# Altium footprint library Leadless.PcbLib: 78 footprints (part 2 of 5)
Each footprint in its own frame and in the unit in brackets; x right, y up, seen from the top. Pads: shape width x height; smd on the part's side, far side on the other; paste and mask are expansions set on the pad; w line width, h text height; cw(c..) or ccw(c..) is an arc to the next point about the centre after c.
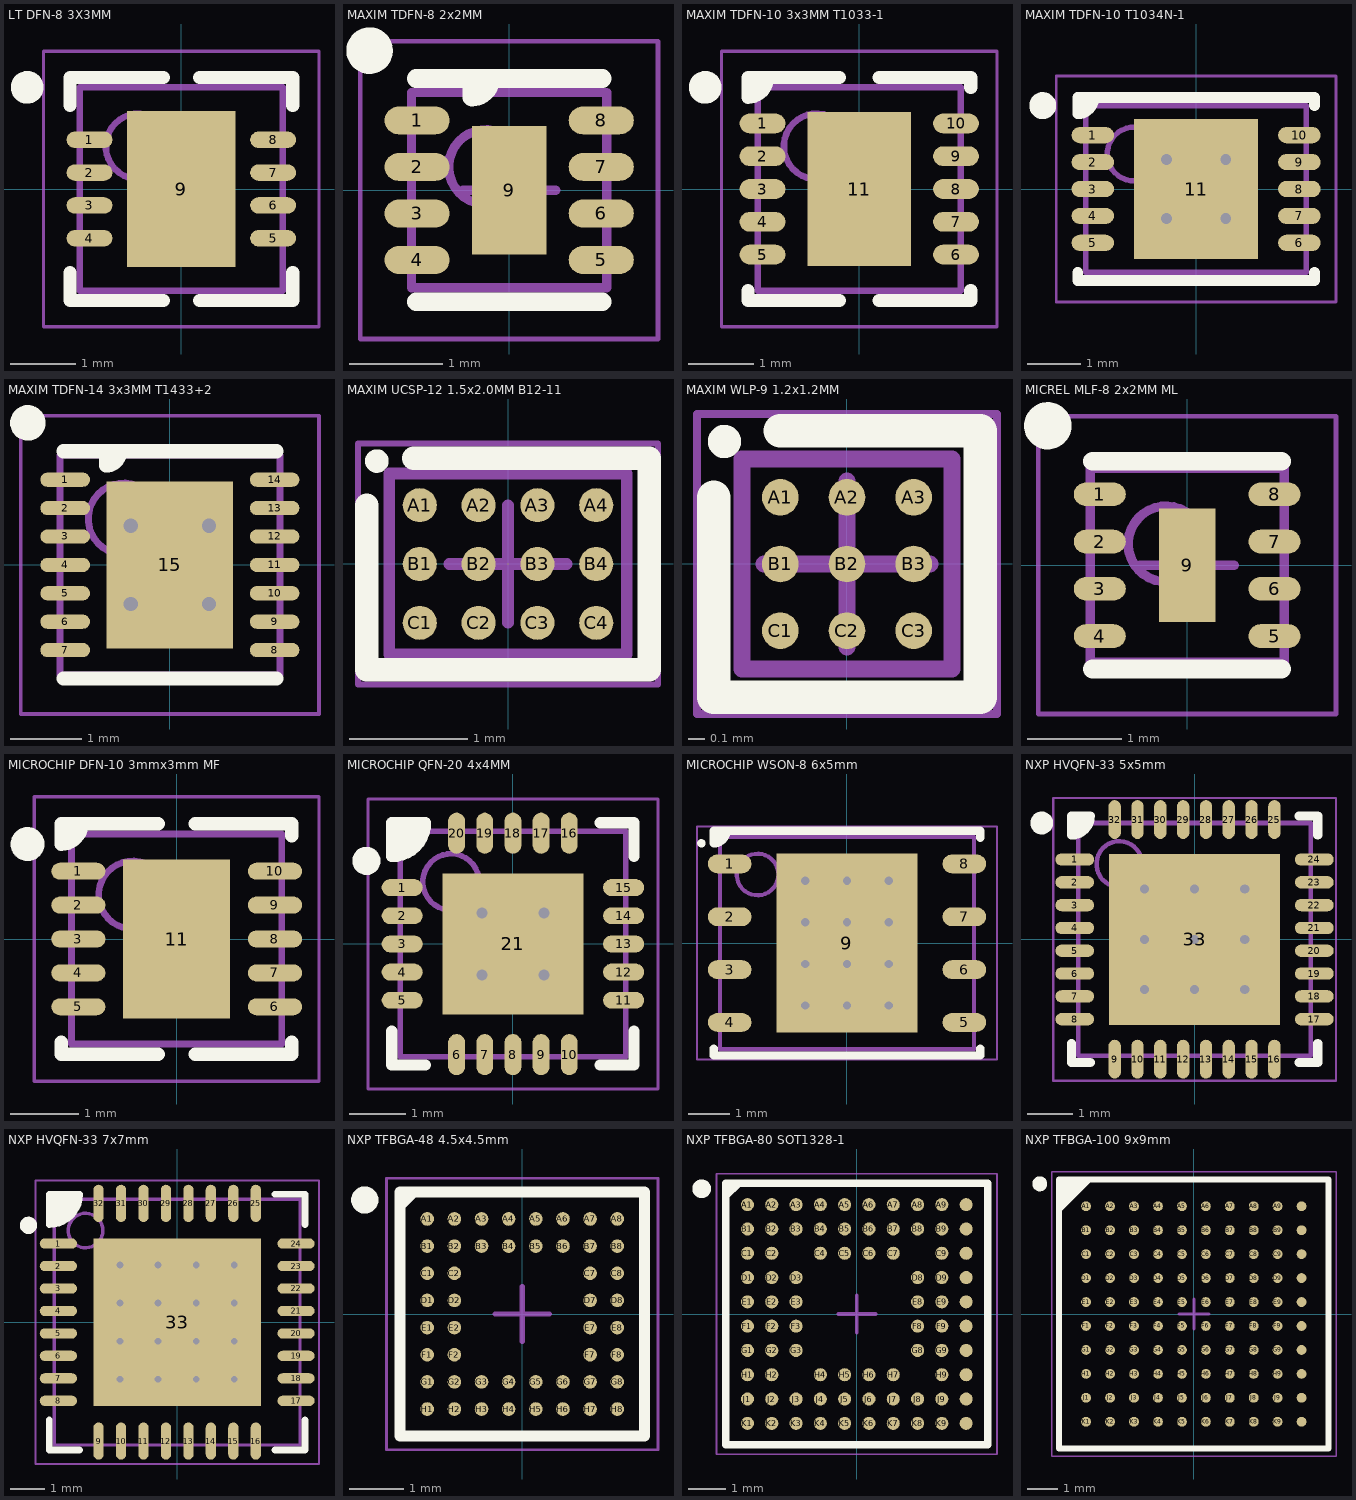
[diagram p1: the footprints below, top view; thin cyan lines are the x and y axes]

## LT DFN-8 3X3MM [mm] "DFN, 8-Leads, Body 3.00x3.00mm, Pitch 0.50mm, Thermal Pad 1.65x2.38mm, IPC Medium Density"
height 0.75
pads (9):
  oval 0.7x0.25 smd: 1(-1.4,0.75) 2(-1.4,0.25) 3(-1.4,-0.25) 4(-1.4,-0.75) 5(1.4,-0.75) 6(1.4,-0.25) 7(1.4,0.25) 8(1.4,0.75)
  rect 1.65x2.38 smd: 9(0,0)
Top Overlay:
  circle w0.25: c-2.35,1.55 r0.125
  lines w0.2: -1.7,-1.275 -1.7,-1.7 -0.275,-1.7 ; -1.7,1.275 -1.7,1.7 -0.275,1.7 ; 0.275,-1.7 1.7,-1.7 1.7,-1.275 ; 0.275,1.7 1.7,1.7 1.7,1.275
Mechanical 13:
  circle w0.1: c-0.65,0.65 r0.5
  lines w0.1: -1.55,-1.55 1.55,-1.55 1.55,1.55 -1.55,1.55 -1.55,-1.55
Mechanical 15:
  lines w0.05: -2.1,-2.1 2.1,-2.1 2.1,2.1 -2.1,2.1 -2.1,-2.1
  lines w0.1: -0.5,0 0.5,0 ; 0,-0.5 0,0.5
3D body: height 0.75, standoff 0.01, extent -1.55,-1.55 1.55,1.55

## MAXIM TDFN-8 2x2MM [mm] "DFN, 8-Leads, Body 2.00x2.00mm, Pitch 0.50mm, Thermal Pad 0.80x1.38mm, IPC Medium Density"
height 0.8
pads (9):
  oval 0.7x0.3 smd: 1(-0.99,0.75) 2(-0.99,0.25) 3(-0.99,-0.25) 4(-0.99,-0.75) 5(0.99,-0.75) 6(0.99,-0.25) 7(0.99,0.25) 8(0.99,0.75)
  rect 0.8x1.38 smd: 9(0,0)
Top Overlay:
  circle w0.25: c-1.5,1.5 r0.125
  lines w0.2: -1,-1.2 1,-1.2 ; -1,1.2 1,1.2 ; -0.4,1.2 -0.4,1 ccw(c-0.4,1.2) -0.2,1.2
Mechanical 13:
  circle w0.1: c-0.25,0.25 r0.4
  lines w0.1: -1.05,-1.05 1.05,-1.05 1.05,1.05 -1.05,1.05 -1.05,-1.05
Mechanical 15:
  lines w0.05: -1.6,-1.6 1.6,-1.6 1.6,1.6 -1.6,1.6 -1.6,-1.6
  lines w0.1: -0.5,0 0.5,0 ; 0,-0.5 0,0.5
3D body: height 0.8, standoff 0.01, extent -1.05,-1.05 1.05,1.05

## MAXIM TDFN-10 3x3MM T1033-1 [mm] "DFN, 10-Leads, Body 3.00x3.00mm, Pitch 0.50mm, Thermal Pad 1.58x2.35mm, IPC Medium Density"
height 0.8
pads (11):
  oval 0.7x0.3 smd: 1(-1.475,1) 2(-1.475,0.5) 3(-1.475,0) 4(-1.475,-0.5) 5(-1.475,-1) 6(1.475,-1) 7(1.475,-0.5) 8(1.475,0) 9(1.475,0.5) 10(1.475,1)
  rect 1.58x2.35 smd: 11(0,0)
Top Overlay:
  circle w0.25: c-2.35,1.55 r0.125
  region: -1.4,1.7 -1.7,1.7 -1.7,1.4
  lines w0.2: -1.7,-1.55 -1.7,-1.7 -0.3,-1.7 ; -1.4,1.7 cw(c-1.7,1.7) -1.7,1.4 ; -0.3,1.7 -1.7,1.7 -1.7,1.4 ; 0.3,-1.7 1.7,-1.7 1.7,-1.55 ; 0.3,1.7 1.7,1.7 1.7,1.55 ; -1.7,1.4 -1.7,1.4
Mechanical 13:
  circle w0.1: c-0.65,0.65 r0.5
  lines w0.1: -1.55,-1.55 -1.55,1.55 1.55,1.55 1.55,-1.55 -1.55,-1.55
Mechanical 15:
  lines w0.05: -2.1,-2.1 -2.1,2.1 2.1,2.1 2.1,-2.1 -2.1,-2.1
  lines w0.1: -0.5,0 0.5,0 ; 0,-0.5 0,0.5
3D body: height 0.8, standoff 0.01, extent -1.55,-1.55 1.55,1.55

## MAXIM TDFN-10 T1034N-1 [mm] "DFN, 10-Leads, Body 4.00x3.00mm, Pitch 0.50mm, Thermal Pad 2.30x2.60mm, IPC Medium Density"
height 0.8
pads (11):
  oval 0.79x0.3 smd: 1(-1.92,1) 2(-1.92,0.5) 3(-1.92,0) 4(-1.92,-0.5) 5(-1.92,-1) 6(1.92,-1) 7(1.92,-0.5) 8(1.92,0) 9(1.92,0.5) 10(1.92,1)
  rect 2.3x2.6 smd: 11(0,0)
via 0.55,-0.55 diameter 0.5 hole 0.2
via -0.55,-0.55 diameter 0.5 hole 0.2
via 0.55,0.55 diameter 0.5 hole 0.2
via -0.55,0.55 diameter 0.5 hole 0.2
Top Overlay:
  circle w0.25: c-2.85,1.55 r0.125
  region: -1.9,1.7 -2.2,1.7 -2.2,1.4 -2.1,1.4 -2,1.5
  lines w0.2: -2.2,-1.55 -2.2,-1.7 2.2,-1.7 2.2,-1.55 ; -1.9,1.7 cw(c-2.2,1.7) -2.2,1.4 ; 2.2,1.55 2.2,1.7 -2.2,1.7 -2.2,1.4 ; -2.2,1.4 -2.2,1.4
Mechanical 13:
  circle w0.1: c-1.15,0.65 r0.5
  lines w0.1: -2.05,-1.55 2.05,-1.55 2.05,1.55 -2.05,1.55 -2.05,-1.55
Mechanical 15:
  lines w0.05: -2.6,-2.1 2.6,-2.1 2.6,2.1 -2.6,2.1 -2.6,-2.1
  lines w0.1: -0.5,0 0.5,0 ; 0,-0.5 0,0.5
3D body: height 0.8, standoff 0.01, extent -2.05,-1.55 2.05,1.55

## MAXIM TDFN-14 3x3MM T1433+2 [mm] "DFN, 14-Leads, Body 3.00x3.00mm, Pitch 0.40mm, Thermal Pad 1.78x2.35mm, IPC Medium Density"
height 0.8
pads (15):
  oval 0.7x0.2 smd: 1(-1.475,1.2) 2(-1.475,0.8) 3(-1.475,0.4) 4(-1.475,0) 5(-1.475,-0.4) 6(-1.475,-0.8) 7(-1.475,-1.2) 8(1.475,-1.2) 9(1.475,-0.8) 10(1.475,-0.4) 11(1.475,0) 12(1.475,0.4) 13(1.475,0.8) 14(1.475,1.2)
  rect 1.78x2.35 smd: 15(0,0)
via -0.55,0.55 diameter 0.5 hole 0.2
via 0.55,0.55 diameter 0.5 hole 0.2
via -0.55,-0.55 diameter 0.5 hole 0.2
via 0.55,-0.55 diameter 0.5 hole 0.2
Top Overlay:
  circle w0.25: c-2,2 r0.125
  lines w0.2: -1.5,-1.6 1.5,-1.6 ; -1.5,1.6 1.5,1.6 ; -0.9,1.6 -0.9,1.4 ccw(c-0.9,1.6) -0.7,1.6
Mechanical 13:
  circle w0.1: c-0.65,0.65 r0.5
  lines w0.1: -1.55,-1.55 -1.55,1.55 1.55,1.55 1.55,-1.55 -1.55,-1.55
Mechanical 15:
  lines w0.05: -2.1,-2.1 -2.1,2.1 2.1,2.1 2.1,-2.1 -2.1,-2.1
  lines w0.1: -0.5,0 0.5,0 ; 0,-0.5 0,0.5
3D body: height 0.8, standoff 0.01, extent -1.55,-1.55 1.55,1.55

## MAXIM UCSP-12 1.5x2.0MM B12-11 [mm] "BGA, 12-Leads, Body 2.02x1.54mmx0.67mm, Pitch 0.50mm"
height 0.67
pads (12):
  round 0.29 smd: A1(-0.75,0.5) A2(-0.25,0.5) A3(0.25,0.5) A4(0.75,0.5) B1(-0.75,0) B2(-0.25,0) B3(0.25,0) B4(0.75,0) C1(-0.75,-0.5) C2(-0.25,-0.5) C3(0.25,-0.5) C4(0.75,-0.5)
Top Overlay:
  circle w0.1: c-1.115,0.875 r0.05
  lines w0.2: -1.2,0.5 -1.2,-0.9 1.2,-0.9 1.2,0.9 -0.8,0.9
Mechanical 13:
  lines w0.1: -1.01,-0.77 1.01,-0.77 1.01,0.77 -1.01,0.77 -1.01,-0.77
Mechanical 15:
  lines w0.05: -1.275,-1.025 1.275,-1.025 1.275,1.025 -1.275,1.025 -1.275,-1.025
  lines w0.1: -0.5,0 0.5,0 ; 0,-0.5 0,0.5
3D body: height 0.67, standoff 0.27, extent -1.01,-0.77 1.01,0.77

## MAXIM WLP-9 1.2x1.2MM [mm] "WLP, 9-Leads, Body 1.26x1.26mmx0.64mm, Pitch 0.40mm"
height 0.64
pads (9):
  round 0.22 smd: A1(-0.4,0.4) A2(0,0.4) A3(0.4,0.4) B1(-0.4,0) B2(0,0) B3(0.4,0) C1(-0.4,-0.4) C2(0,-0.4) C3(0.4,-0.4)
Top Overlay:
  circle w0.1: c-0.735,0.735 r0.05
  lines w0.2: -0.8,0.4 -0.8,-0.8 0.8,-0.8 0.8,0.8 -0.4,0.8
Mechanical 13:
  lines w0.1: -0.63,-0.63 0.63,-0.63 0.63,0.63 -0.63,0.63 -0.63,-0.63
Mechanical 15:
  lines w0.05: -0.9,-0.9 0.9,-0.9 0.9,0.9 -0.9,0.9 -0.9,-0.9
  lines w0.1: -0.5,0 0.5,0 ; 0,-0.5 0,0.5
3D body: height 0.64, standoff 0.16, extent -0.63,-0.63 0.63,0.63

## MICREL MLF-8 2x2MM ML [mm] "MLF, 8-Leads, Body 2.00x2.00mm, Pitch 0.50mm, Thermal Pad 0.60x1.20mm, IPC Medium Density"
height 0.85
pads (9):
  oval 0.55x0.25 smd: 1(-0.925,0.75) 2(-0.925,0.25) 3(-0.925,-0.25) 4(-0.925,-0.75) 5(0.925,-0.75) 6(0.925,-0.25) 7(0.925,0.25) 8(0.925,0.75)
  rect 0.6x1.2 smd: 9(0,0)
Top Overlay:
  circle w0.25: c-1.475,1.475 r0.125
  lines w0.2: -1,-1.1 1,-1.1 ; -1,1.1 1,1.1
Mechanical 13:
  circle w0.1: c-0.225,0.225 r0.4
  lines w0.1: -1.025,-1.025 1.025,-1.025 1.025,1.025 -1.025,1.025 -1.025,-1.025
Mechanical 15:
  lines w0.05: -1.575,-1.575 1.575,-1.575 1.575,1.575 -1.575,1.575 -1.575,-1.575
  lines w0.1: -0.5,0 0.5,0 ; 0,-0.5 0,0.5
3D body: height 0.85, standoff 0.01, extent -1.025,-1.025 1.025,1.025

## MICROCHIP DFN-10 3mmx3mm MF [mm] "DFN, 10-Leads, Body 3.00x3.00mm, Pitch 0.50mm, Thermal Pad 1.58x2.34mm, IPC Medium Density"
height 1
pads (11):
  oval 0.8x0.25 smd: 1(-1.45,1) 2(-1.45,0.5) 3(-1.45,0) 4(-1.45,-0.5) 5(-1.45,-1) 6(1.45,-1) 7(1.45,-0.5) 8(1.45,0) 9(1.45,0.5) 10(1.45,1)
  rect 1.58x2.34 smd: 11(0,0)
Top Overlay:
  circle w0.25: c-2.2,1.4 r0.125
  region: -1.7,1.7 -1.4,1.7 -1.7,1.4
  lines w0.2: -1.7,-1.525 -1.7,-1.7 -0.275,-1.7 ; -1.4,1.7 cw(c-1.7,1.7) -1.7,1.4 -1.7,1.7 -0.275,1.7 ; 0.275,-1.7 1.7,-1.7 1.7,-1.525 ; 0.275,1.7 1.7,1.7 1.7,1.525
Mechanical 13:
  circle w0.1: c-0.65,0.65 r0.5
  lines w0.1: -1.55,-1.55 -1.55,1.55 1.55,1.55 1.55,-1.55 -1.55,-1.55
Mechanical 15:
  lines w0.05: -2.1,-2.1 -2.1,2.1 2.1,2.1 2.1,-2.1 -2.1,-2.1
  lines w0.1: -0.5,0 0.5,0 ; 0,-0.5 0,0.5
3D body: height 1, standoff 0.01, extent -1.55,-1.55 1.55,1.55

## MICROCHIP QFN-20 4x4MM [mm] "QFN, 20-Leads, Body 4.00x4.00mm, Pitch 0.50mm, Thermal Pad 2.50x2.50mm, IPC Medium Density"
height 1
pads (21):
  oval 0.73x0.3 smd: 1(-1.965,1) 2(-1.965,0.5) 3(-1.965,0) 4(-1.965,-0.5) 5(-1.965,-1) 11(1.965,-1) 12(1.965,-0.5) 13(1.965,0) 14(1.965,0.5) 15(1.965,1)
  oval 0.3x0.73 smd: 6(-1,-1.965) 7(-0.5,-1.965) 8(0,-1.965) 9(0.5,-1.965) 10(1,-1.965) 16(1,1.965) 17(0.5,1.965) 18(0,1.965) 19(-0.5,1.965) 20(-1,1.965)
  rect 2.5x2.5 smd: 21(0,0)
via -0.55,0.55 diameter 0.5 hole 0.2
via 0.55,0.55 diameter 0.5 hole 0.2
via -0.55,-0.55 diameter 0.5 hole 0.2
via 0.55,-0.55 diameter 0.5 hole 0.2
Top Overlay:
  circle w0.25: c-2.6,1.475 r0.125
  region: -1.55,2.15 -2.15,2.15 -2.15,1.55 -1.925,1.55 -1.55,1.925
  lines w0.2: -2.15,-1.55 -2.15,-2.15 -1.55,-2.15 ; 1.55,-2.15 2.15,-2.15 2.15,-1.55 ; 1.55,2.15 2.15,2.15 2.15,1.55 ; -2.15,1.55 ccw(c-2.15,2.15) -1.55,2.15 -2.15,2.15 -2.15,1.55
Mechanical 13:
  circle w0.1: c-1.1,1.1 r0.5
  lines w0.1: -2,-2 -2,2 2,2 2,-2 -2,-2
Mechanical 15:
  lines w0.05: -2.575,-2.575 -2.575,2.575 2.575,2.575 2.575,-2.575 -2.575,-2.575
  lines w0.1: -0.5,0 0.5,0 ; 0,-0.5 0,0.5
3D body: height 1, standoff 0, extent -2,-2 2,2

## MICROCHIP WSON-8 6x5mm [mm] "SON, 8-Leads, Body 5.00x6.00mm, Pitch 1.27mm, Thermal Pad 4.30x3.40mm, IPC Medium Density"
height 0.8
pads (9):
  oval 1.05x0.45 smd: 1(-2.82,1.905) 2(-2.82,0.635) 3(-2.82,-0.635) 4(-2.82,-1.905) 5(2.82,-1.905) 6(2.82,-0.635) 7(2.82,0.635) 8(2.82,1.905)
  rect 3.4x4.3 smd paste-1.7 mask+0: 9(0,0)
via -1,1.5 diameter 0.5 hole 0.2
via 0,1.5 diameter 0.5 hole 0.2
via 1,1.5 diameter 0.5 hole 0.2
via -1,0.5 diameter 0.5 hole 0.2
via 0,0.5 diameter 0.5 hole 0.2
via 1,0.5 diameter 0.5 hole 0.2
via -1,-0.5 diameter 0.5 hole 0.2
via 0,-0.5 diameter 0.5 hole 0.2
via 1,-0.5 diameter 0.5 hole 0.2
via -1,-1.5 diameter 0.5 hole 0.2
via 0,-1.5 diameter 0.5 hole 0.2
via 1,-1.5 diameter 0.5 hole 0.2
Top Overlay:
  circle w0.1: c-3.5,2.4 r0.05
  region: -3.2,2.4 -3.14,2.4 -3.03,2.446 -2.946,2.53 -2.9,2.64 -2.9,2.7 -3.2,2.7
  lines w0.2: -3.2,-2.53 -3.2,-2.7 3.2,-2.7 3.2,-2.53 ; -2.9,2.7 cw(c-3.2,2.7) -3.2,2.4 ; 3.2,2.53 3.2,2.7 -3.2,2.7 -3.2,2.4 ; -3.2,2.4 -3.2,2.4
Top Paste:
  rectangle: -1.595,0.815 -0.665,2.045
  rectangle: -1.595,-0.615 -0.665,0.615
  rectangle: -1.595,-2.045 -0.665,-0.815
  rectangle: -0.465,0.815 0.465,2.045
  rectangle: -0.465,-0.615 0.465,0.615
  rectangle: -0.465,-2.045 0.465,-0.815
  rectangle: 0.665,0.815 1.595,2.045
  rectangle: 0.665,-0.615 1.595,0.615
  rectangle: 0.665,-2.045 1.595,-0.815
Mechanical 13:
  circle w0.1: c-2.15,1.65 r0.5
  lines w0.1: -3.05,-2.55 -3.05,2.55 3.05,2.55 3.05,-2.55 -3.05,-2.55
Mechanical 15:
  lines w0.05: -3.605,-2.8 -3.605,2.8 3.605,2.8 3.605,-2.8 -3.605,-2.8
  lines w0.1: -0.5,0 0.5,0 ; 0,-0.5 0,0.5
3D body: height 0.8, standoff 0, extent -3.05,-2.55 3.05,2.55

## NXP HVQFN-33 5x5mm [mm] "QFN, 32-Leads, Body 5.00x5.00mm, Pitch 0.50mm, Thermal Pad 3.75x3.75mm, IPC Medium Density"
height 0.85
pads (33):
  oval 0.85x0.27 smd: 1(-2.625,1.75) 2(-2.625,1.25) 3(-2.625,0.75) 4(-2.625,0.25) 5(-2.625,-0.25) 6(-2.625,-0.75) 7(-2.625,-1.25) 8(-2.625,-1.75) 17(2.625,-1.75) 18(2.625,-1.25) 19(2.625,-0.75) 20(2.625,-0.25) 21(2.625,0.25) 22(2.625,0.75) 23(2.625,1.25) 24(2.625,1.75)
  oval 0.27x0.85 smd: 9(-1.75,-2.625) 10(-1.25,-2.625) 11(-0.75,-2.625) 12(-0.25,-2.625) 13(0.25,-2.625) 14(0.75,-2.625) 15(1.25,-2.625) 16(1.75,-2.625) 25(1.75,2.625) 26(1.25,2.625) 27(0.75,2.625) 28(0.25,2.625) 29(-0.25,2.625) 30(-0.75,2.625) 31(-1.25,2.625) 32(-1.75,2.625)
  rect 3.75x3.75 smd: 33(0,0)
via 1.1,-1.1 diameter 0.5 hole 0.2
via 0,-1.1 diameter 0.5 hole 0.2
via -1.1,-1.1 diameter 0.5 hole 0.2
via 1.1,0 diameter 0.5 hole 0.2
via 0,0 diameter 0.5 hole 0.2
via -1.1,0 diameter 0.5 hole 0.2
via 1.1,1.1 diameter 0.5 hole 0.2
via 0,1.1 diameter 0.5 hole 0.2
via -1.1,1.1 diameter 0.5 hole 0.2
Top Overlay:
  circle w0.25: c-3.35,2.55 r0.125
  region: -2.7,2.7 -2.285,2.7 -2.285,2.515 -2.515,2.285 -2.7,2.285
  lines w0.2: -2.7,-2.285 -2.7,-2.7 -2.285,-2.7 ; 2.285,-2.7 2.7,-2.7 2.7,-2.285 ; 2.285,2.7 2.7,2.7 2.7,2.285 ; -2.7,2.285 ccw(c-2.7,2.7) -2.285,2.7 -2.7,2.7 -2.7,2.285
Mechanical 13:
  circle w0.1: c-1.65,1.65 r0.5
  lines w0.1: -2.55,-2.55 2.55,-2.55 2.55,2.55 -2.55,2.55 -2.55,-2.55
Mechanical 15:
  lines w0.05: -3.1,-3.1 3.1,-3.1 3.1,3.1 -3.1,3.1 -3.1,-3.1
  lines w0.1: -0.5,0 0.5,0 ; 0,-0.5 0,0.5
3D body: height 0.85, standoff 0.01, extent -2.55,-2.55 2.55,2.55

## NXP HVQFN-33 7x7mm [mm] "HVQFN, 32-Leads, Body 7.00x7.00mm, Pitch 0.65mm, Thermal Pad 4.85x4.85mm, IPC Medium Density"
height 1
pads (33):
  oval 1.075x0.3 smd: 1(-3.437,2.275) 2(-3.437,1.625) 3(-3.437,0.975) 4(-3.437,0.325) 5(-3.437,-0.325) 6(-3.437,-0.975) 7(-3.437,-1.625) 8(-3.437,-2.275) 17(3.438,-2.275) 18(3.438,-1.625) 19(3.438,-0.975) 20(3.438,-0.325) 21(3.438,0.325) 22(3.438,0.975) 23(3.438,1.625) 24(3.438,2.275)
  oval 0.3x1.075 smd: 9(-2.275,-3.438) 10(-1.625,-3.438) 11(-0.975,-3.438) 12(-0.325,-3.438) 13(0.325,-3.438) 14(0.975,-3.438) 15(1.625,-3.438) 16(2.275,-3.438) 25(2.275,3.437) 26(1.625,3.437) 27(0.975,3.437) 28(0.325,3.437) 29(-0.325,3.437) 30(-0.975,3.437) 31(-1.625,3.437) 32(-2.275,3.437)
  rect 4.85x4.85 smd: 33(0,0)
via -1.65,1.65 diameter 0.5 hole 0.2
via -0.55,1.65 diameter 0.5 hole 0.2
via 0.55,1.65 diameter 0.5 hole 0.2
via 1.65,1.65 diameter 0.5 hole 0.2
via -1.65,0.55 diameter 0.5 hole 0.2
via -0.55,0.55 diameter 0.5 hole 0.2
via 0.55,0.55 diameter 0.5 hole 0.2
via 1.65,0.55 diameter 0.5 hole 0.2
via -1.65,-0.55 diameter 0.5 hole 0.2
via -0.55,-0.55 diameter 0.5 hole 0.2
via 0.55,-0.55 diameter 0.5 hole 0.2
via 1.65,-0.55 diameter 0.5 hole 0.2
via -1.65,-1.65 diameter 0.5 hole 0.2
via -0.55,-1.65 diameter 0.5 hole 0.2
via 0.55,-1.65 diameter 0.5 hole 0.2
via 1.65,-1.65 diameter 0.5 hole 0.2
Top Overlay:
  circle w0.25: c-4.3,2.8 r0.125
  region: -3.7,3.7 -2.825,3.7 -2.825,3.614 -2.859,3.445 -2.925,3.286 -3.02,3.142 -3.142,3.02 -3.286,2.925 -3.445,2.859 -3.614,2.825 -3.7,2.825
  lines w0.2: -3.7,-2.825 -3.7,-3.7 -2.825,-3.7 ; 2.825,-3.7 3.7,-3.7 3.7,-2.825 ; 2.825,3.7 3.7,3.7 3.7,2.825 ; -3.7,2.825 ccw(c-3.7,3.7) -2.825,3.7 -3.7,3.7 -3.7,2.825
Mechanical 13:
  circle w0.1: c-2.65,2.65 r0.5
  lines w0.1: -3.55,-3.55 -3.55,3.55 3.55,3.55 3.55,-3.55 -3.55,-3.55
Mechanical 15:
  lines w0.05: -4.1,-4.1 -4.1,4.1 4.1,4.1 4.1,-4.1 -4.1,-4.1
  lines w0.1: -0.5,0 0.5,0 ; 0,-0.5 0,0.5
3D body: height 1, standoff 0.01, extent -3.55,-3.55 3.55,3.55

## NXP TFBGA-48 4.5x4.5mm [mm] "TFBGA, 48-Leads, Body 4.50x4.50mmx1.10mm, Pitch 0.50mm"
height 1.1
pads (48):
  round 0.25 smd: A1(-1.75,1.75) A2(-1.25,1.75) A3(-0.75,1.75) A4(-0.25,1.75) A5(0.25,1.75) A6(0.75,1.75) A7(1.25,1.75) A8(1.75,1.75) B1(-1.75,1.25) B2(-1.25,1.25) B3(-0.75,1.25) B4(-0.25,1.25) B5(0.25,1.25) B6(0.75,1.25) B7(1.25,1.25) B8(1.75,1.25) C1(-1.75,0.75) C2(-1.25,0.75) C7(1.25,0.75) C8(1.75,0.75) D1(-1.75,0.25) D2(-1.25,0.25) D7(1.25,0.25) D8(1.75,0.25) E1(-1.75,-0.25) E2(-1.25,-0.25) E7(1.25,-0.25) E8(1.75,-0.25) F1(-1.75,-0.75) F2(-1.25,-0.75) F7(1.25,-0.75) F8(1.75,-0.75) G1(-1.75,-1.25) G2(-1.25,-1.25) G3(-0.75,-1.25) G4(-0.25,-1.25) G5(0.25,-1.25) G6(0.75,-1.25) G7(1.25,-1.25) G8(1.75,-1.25) H1(-1.75,-1.75) H2(-1.25,-1.75) H3(-0.75,-1.75) H4(-0.25,-1.75) H5(0.25,-1.75) H6(0.75,-1.75) H7(1.25,-1.75) H8(1.75,-1.75)
Top Overlay:
  circle w0.25: c-2.9,2.1 r0.125
  region: -1.992,2.25 -2.25,1.992 -2.25,2.25
  lines w0.2: -2.25,1.992 -1.992,2.25 ; -2.25,-2.25 -2.25,2.25 2.25,2.25 2.25,-2.25 -2.25,-2.25
Mechanical 13:
  lines w0.1: -2.25,-2.25 -2.25,2.25 2.25,2.25 2.25,-2.25 -2.25,-2.25
Mechanical 15:
  lines w0.05: -2.5,-2.5 -2.5,2.5 2.5,2.5 2.5,-2.5 -2.5,-2.5
  lines w0.1: -0.5,0 0.5,0 ; 0,-0.5 0,0.5
3D body: height 1.1, standoff 0.2, extent -2.25,-2.25 2.25,2.25

## NXP TFBGA-80 SOT1328-1 [mm] "BGA, 80-Leads, Body 7.00x7.00mmx1.15mm, Pitch 0.65mm"
height 1.15
pads (80):
  round 0.35 smd: A1(-2.925,2.925) A2(-2.275,2.925) A3(-1.625,2.925) A4(-0.975,2.925) A5(-0.325,2.925) A6(0.325,2.925) A7(0.975,2.925) A8(1.625,2.925) A9(2.275,2.925) A10(2.925,2.925) B1(-2.925,2.275) B2(-2.275,2.275) B3(-1.625,2.275) B4(-0.975,2.275) B5(-0.325,2.275) B6(0.325,2.275) B7(0.975,2.275) B8(1.625,2.275) B9(2.275,2.275) B10(2.925,2.275) C1(-2.925,1.625) C2(-2.275,1.625) C4(-0.975,1.625) C5(-0.325,1.625) C6(0.325,1.625) C7(0.975,1.625) C9(2.275,1.625) C10(2.925,1.625) D1(-2.925,0.975) D2(-2.275,0.975) D3(-1.625,0.975) D8(1.625,0.975) D9(2.275,0.975) D10(2.925,0.975) E1(-2.925,0.325) E2(-2.275,0.325) E3(-1.625,0.325) E8(1.625,0.325) E9(2.275,0.325) E10(2.925,0.325) F1(-2.925,-0.325) F2(-2.275,-0.325) F3(-1.625,-0.325) F8(1.625,-0.325) F9(2.275,-0.325) F10(2.925,-0.325) G1(-2.925,-0.975) G2(-2.275,-0.975) G3(-1.625,-0.975) G8(1.625,-0.975) G9(2.275,-0.975) G10(2.925,-0.975) H1(-2.925,-1.625) H2(-2.275,-1.625) H4(-0.975,-1.625) H5(-0.325,-1.625) H6(0.325,-1.625) H7(0.975,-1.625) H9(2.275,-1.625) H10(2.925,-1.625) J1(-2.925,-2.275) J2(-2.275,-2.275) J3(-1.625,-2.275) J4(-0.975,-2.275) J5(-0.325,-2.275) J6(0.325,-2.275) J7(0.975,-2.275) J8(1.625,-2.275) J9(2.275,-2.275) J10(2.925,-2.275) K1(-2.925,-2.925) K2(-2.275,-2.925) K3(-1.625,-2.925) K4(-0.975,-2.925) K5(-0.325,-2.925) K6(0.325,-2.925) K7(0.975,-2.925) K8(1.625,-2.925) K9(2.275,-2.925) K10(2.925,-2.925)
Top Overlay:
  circle w0.25: c-4.15,3.35 r0.125
  region: -3.163,3.5 -3.5,3.163 -3.5,3.5
  lines w0.2: -3.5,3.163 -3.163,3.5 ; -3.5,-3.5 3.5,-3.5 3.5,3.5 -3.5,3.5 -3.5,-3.5
Mechanical 13:
  lines w0.1: -3.5,-3.5 3.5,-3.5 3.5,3.5 -3.5,3.5 -3.5,-3.5
Mechanical 15:
  lines w0.05: -3.75,-3.75 3.75,-3.75 3.75,3.75 -3.75,3.75 -3.75,-3.75
  lines w0.1: -0.5,0 0.5,0 ; 0,-0.5 0,0.5
3D body "NXP TFBGA80 SOT1328-1.STEP": height 1.1, standoff 0, extent -3.5,-3.5 3.5,3.5

## NXP TFBGA-100 9x9mm [mm] "BGA, 100-Leads, Body 9.00x9.00mmx1.20mm, Pitch 0.80mm"
height 1.2
pads (100):
  round 0.33 smd: A1(-3.6,3.6) A2(-2.8,3.6) A3(-2,3.6) A4(-1.2,3.6) A5(-0.4,3.6) A6(0.4,3.6) A7(1.2,3.6) A8(2,3.6) A9(2.8,3.6) A10(3.6,3.6) B1(-3.6,2.8) B2(-2.8,2.8) B3(-2,2.8) B4(-1.2,2.8) B5(-0.4,2.8) B6(0.4,2.8) B7(1.2,2.8) B8(2,2.8) B9(2.8,2.8) B10(3.6,2.8) C1(-3.6,2) C2(-2.8,2) C3(-2,2) C4(-1.2,2) C5(-0.4,2) C6(0.4,2) C7(1.2,2) C8(2,2) C9(2.8,2) C10(3.6,2) D1(-3.6,1.2) D2(-2.8,1.2) D3(-2,1.2) D4(-1.2,1.2) D5(-0.4,1.2) D6(0.4,1.2) D7(1.2,1.2) D8(2,1.2) D9(2.8,1.2) D10(3.6,1.2) E1(-3.6,0.4) E2(-2.8,0.4) E3(-2,0.4) E4(-1.2,0.4) E5(-0.4,0.4) E6(0.4,0.4) E7(1.2,0.4) E8(2,0.4) E9(2.8,0.4) E10(3.6,0.4) F1(-3.6,-0.4) F2(-2.8,-0.4) F3(-2,-0.4) F4(-1.2,-0.4) F5(-0.4,-0.4) F6(0.4,-0.4) F7(1.2,-0.4) F8(2,-0.4) F9(2.8,-0.4) F10(3.6,-0.4) G1(-3.6,-1.2) G2(-2.8,-1.2) G3(-2,-1.2) G4(-1.2,-1.2) G5(-0.4,-1.2) G6(0.4,-1.2) G7(1.2,-1.2) G8(2,-1.2) G9(2.8,-1.2) G10(3.6,-1.2) H1(-3.6,-2) H2(-2.8,-2) H3(-2,-2) H4(-1.2,-2) H5(-0.4,-2) H6(0.4,-2) H7(1.2,-2) H8(2,-2) H9(2.8,-2) H10(3.6,-2) J1(-3.6,-2.8) J2(-2.8,-2.8) J3(-2,-2.8) J4(-1.2,-2.8) J5(-0.4,-2.8) J6(0.4,-2.8) J7(1.2,-2.8) J8(2,-2.8) J9(2.8,-2.8) J10(3.6,-2.8) K1(-3.6,-3.6) K2(-2.8,-3.6) K3(-2,-3.6) K4(-1.2,-3.6) K5(-0.4,-3.6) K6(0.4,-3.6) K7(1.2,-3.6) K8(2,-3.6) K9(2.8,-3.6) K10(3.6,-3.6)
Top Overlay:
  circle w0.25: c-5.15,4.35 r0.125
  region: -3.5,4.5 -4.5,3.5 -4.5,4.5
  lines w0.2: -4.5,3.5 -3.5,4.5 ; -4.5,-4.5 -4.5,4.5 4.5,4.5 4.5,-4.5 -4.5,-4.5
Mechanical 13:
  lines w0.1: -4.5,-4.5 -4.5,4.5 4.5,4.5 4.5,-4.5 -4.5,-4.5
Mechanical 15:
  lines w0.05: -4.75,-4.75 -4.75,4.75 4.75,4.75 4.75,-4.75 -4.75,-4.75
  lines w0.1: -0.5,0 0.5,0 ; 0,-0.5 0,0.5
3D body "NXP TFBGA-100.STEP": height 1.2, standoff 0, extent -4.5,-4.5 4.5,4.5